# Altium schematic symbol library Library.SchLib: 40 symbols
Pins are listed as number, name and electrical type; pins without a type are passive.

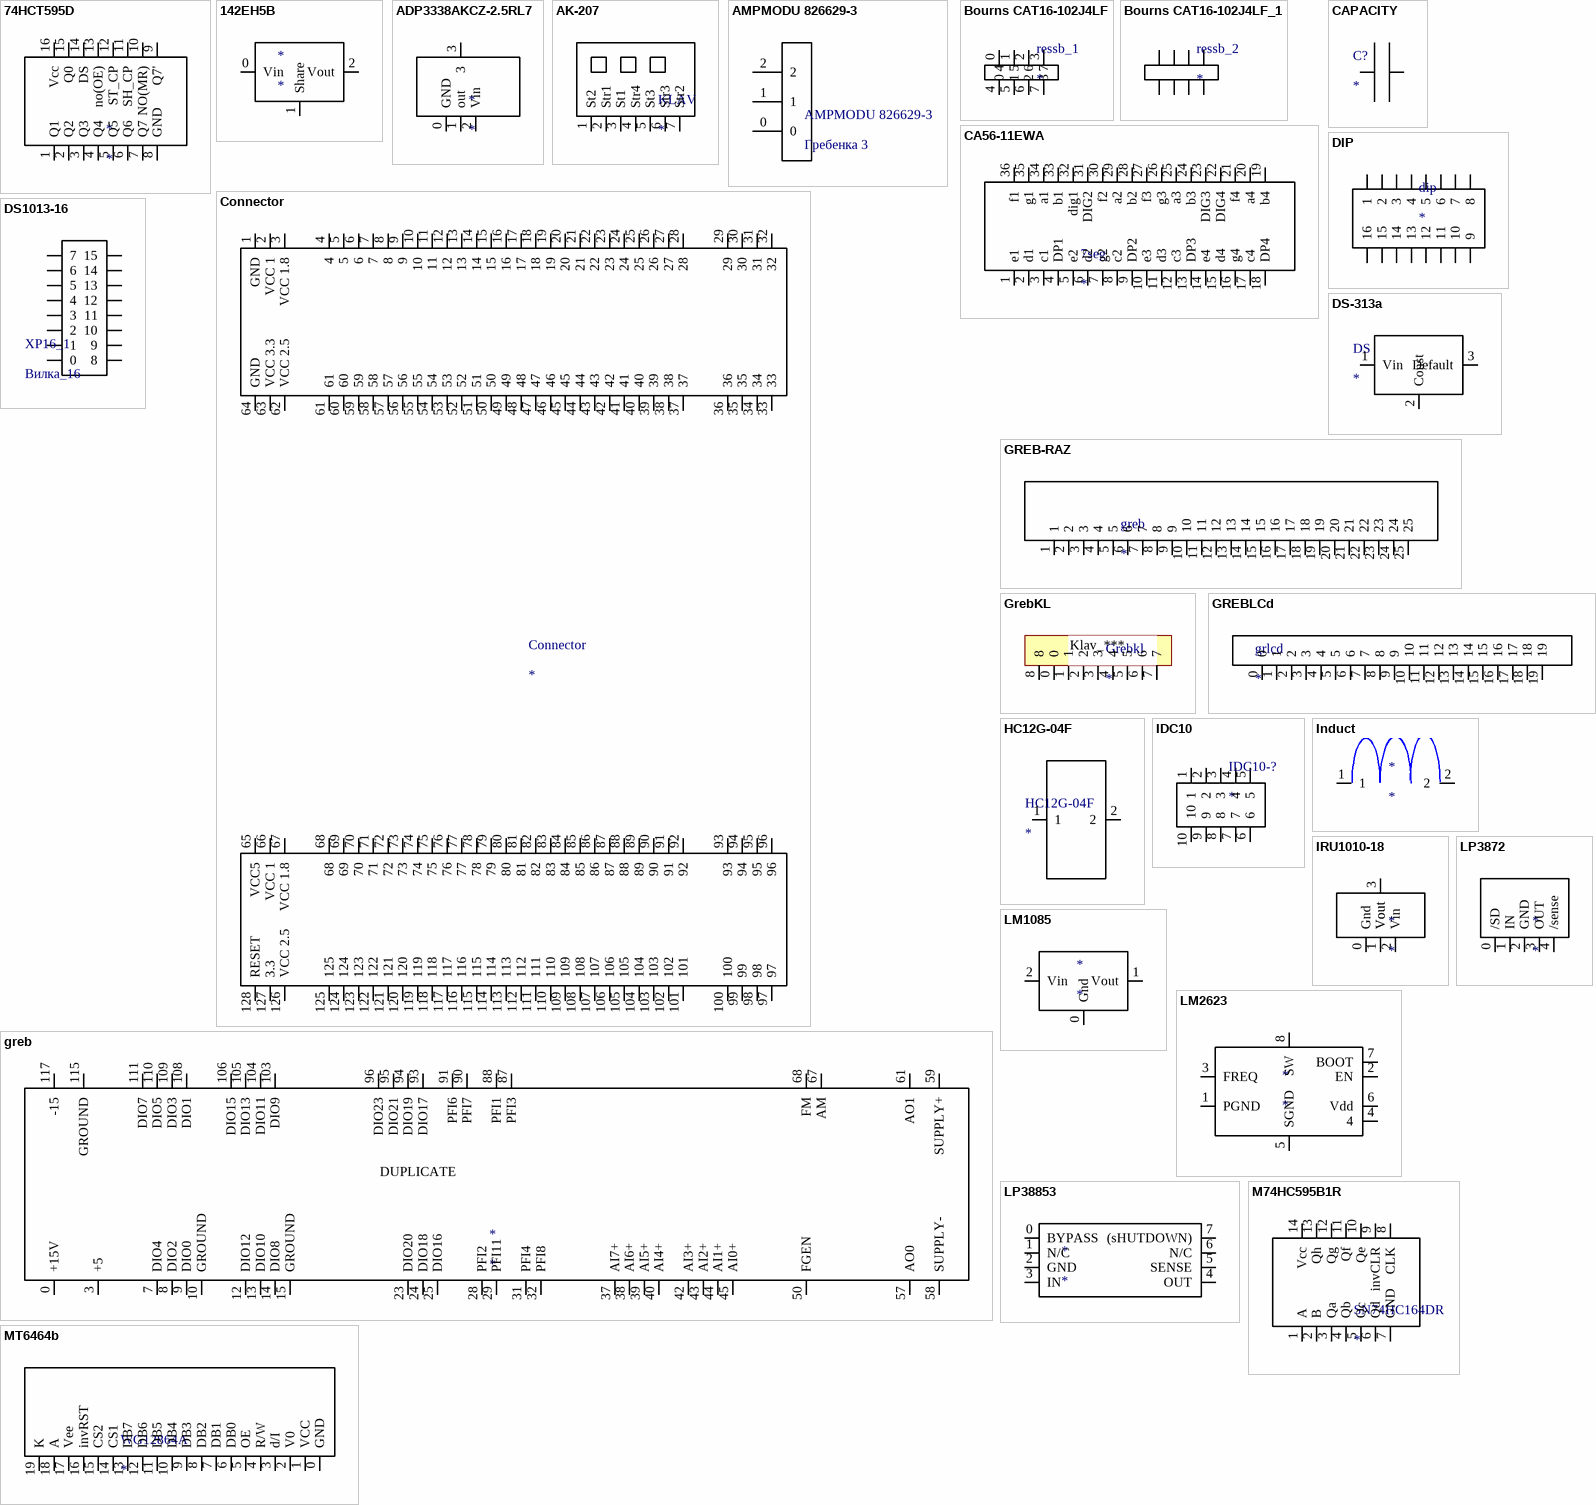
[diagram p0: symbols 74HCT595D to MT6464b]

## 74HCT595D
designator *
footprint SN74HC164DR-D
pins: 1 Q1, 2 Q2, 3 Q3, 4 Q4, 5 Q5, 6 Q6, 7 Q7, 8 GND, 9 Q7', 10 NO(MR), 11 SH_CP, 12 ST_CP, 13 no(OE), 14 DS, 15 Q0, 16 Vcc

## 142ЕН5В
designator *
footprint К(Р)142ЕН5В
pins: 0 Vin, 1 Share, 2 Vout

## ADP3338AKCZ-2.5RL7
designator *
footprint sot223
pins: 0 GND, 1 out, 2 Vin, 3

## AK-207
designator KLAV
footprint AK-207
pins: 1 St2, 2 Str1, 3 St1, 4 Str4, 5 St3, 6 Str3, 7 Str2

## AMPMODU 826629-3
designator AMPMODU 826629-3, comment Гребенка 3
footprint AMPMODU 826629-3 (Гребенка)
pins: 0, 1, 2

## Bourns CAT16-102J4LF
designator ressb_1
footprint CAT16-102J4LF
pins: 0, 1, 2, 3, 4, 5, 6, 7

## Bourns CAT16-102J4LF_1
designator ressb_2
footprint CAT16-102J4LF_2
pins: 0, 1, 2, 3, 4, 5, 6, 7

## CA56-11EWA
designator 7seg
footprint CA56-11EWA
pins: 1 e1, 2 d1, 3 c1, 4 DP1, 5 e2, 6 d2, 7 g2, 8 c2, 9 DP2, 10 e3, 11 d3, 12 c3, 13 DP3, 14 e4, 15 d4, 16 g4, 17 c4, 18 DP4, 19 b4, 20 a4, 21 f4, 22 DIG4, 23 DIG3, 24 b3, 25 a3, 26 g3, 27 f3, 28 b2, 29 a2, 30 f2, 31 DIG2, 32 dig1, 33 b1, 34 a1, 35 g1, 36 f1

## CAPACITY
designator C?
footprint R0805
footprint 1206
pins: 1, 2

## Connector
designator Connector
footprint Connect
pins: 1 GND, 2 VCC 1, 3 VCC 1.8, 4, 5, 6, 7, 8, 9, 10, 11, 12, 13, 14, 15, 16, 17, 18, 19, 20, 21, 22, 23, 24, 25, 26, 27, 28, 29, 30, 31, 32, 33, 34, 35, 36, 37, 38, 39, 40, 41, 42, 43, 44, 45, 46, 47, 48, 49, 50, 51, 52, 53, 54, 55, 56, 57, 58, 59, 60, 61, 62 VCC 2.5, 63 VCC 3.3, 64 GND, 65 VCC5, 66 VCC 1, 67 VCC 1.8, 68, 69, 70, 71, 72, 73, 74, 75, 76, 77, 78, 79, 80, 81, 82, 83, 84, 85, 86, 87, 88, 89, 90, 91, 92, 93, 94, 95, 96, 97, 98, 99, 100, 101, 102, 103, 104, 105, 106, 107, 108, 109, 110, 111, 112, 113, 114, 115, 116, 117, 118, 119, 120, 121, 122, 123, 124, 125, 126 VCC 2.5, 127 3.3, 128 RESET

## DIP
designator dip
footprint SWD1-8
pins: 1, 2, 3, 4, 5, 6, 7, 8, 9, 10, 11, 12, 13, 14, 15, 16

## DS1013-16
designator XP16_1, comment Вилка_16
16_pin
footprint DS1013-16
pins: 0, 1, 2, 3, 4, 5, 6, 7, 8, 9, 10, 11, 12, 13, 14, 15

## DS-313a
designator DS
footprint ds-313
pins: 1 Vin, 2 Const, 3 Default

## greb
designator *
footprint GrebForPCI
pins: 0 +15V, 3 +5, 7 DIO4, 8 DIO2, 9 DIO0, 10 GROUND, 12 DIO12, 13 DIO10, 14 DIO8, 15 GROUND, 23 DIO20, 24 DIO18, 25 DIO16, 28 PFI2, 29 PFI11, 31 PFI4, 32 PFI8, 37 AI7+, 38 AI6+, 39 AI5+, 40 AI4+, 42 AI3+, 43 AI2+, 44 AI1+, 45 AI0+, 50 FGEN, 57 AO0, 58 SUPPLY-, 59 SUPPLY+, 61 AO1, 67 AM, 68 FM, 87 PFI3, 88 PFI1, 90 PFI7, 91 PFI6, 93 DIO17, 94 DIO19, 95 DIO21, 96 DIO23, 103 DIO9, 104 DIO11, 105 DIO13, 106 DIO15, 108 DIO1, 109 DIO3, 110 DIO5, 111 DIO7, 115 GROUND, 117 -15
text: DUPLICATE /

## GREB-RAZ
designator greb
footprint GREBENKA
pins: 1, 2, 3, 4, 5, 6, 7, 8, 9, 10, 11, 12, 13, 14, 15, 16, 17, 18, 19, 20, 21, 22, 23, 24, 25

## GrebKL
designator Grebkl
footprint Greb_KL
pins: 0, 1, 2, 3, 4, 5, 6, 7, 8
text: Klav_***

## GREBLCd
designator grlcd
footprint GREB_LCD
pins: 0, 1, 2, 3, 4, 5, 6, 7, 8, 9, 10, 11, 12, 13, 14, 15, 16, 17, 18, 19

## HC12G-04F
designator HC12G-04F
footprint HC12G-04F
pins: 1, 2

## IDC10
designator IDC10-?
footprint IDC10
pins: 1, 2, 3, 4, 5, 6, 7, 8, 9, 10

## Induct
designator *
footprint B82464G4472M
pins: 1, 2

## IRU1010-18
designator *
footprint IRU1010-18
pins: 0 Gnd, 1 Vout, 2 Vin, 3 Vout

## LM1085
designator *
footprint LM1085
pins: 0 Gnd, 1 Vout, 2 Vin

## LM2623
designator *
footprint VSSOP-8
pins: 1 PGND, 2 EN, 3 FREQ, 4, 5 SGND, 6 Vdd, 7 BOOT, 8 SW

## LP3872
designator *
footprint SC1566I5M2.5TRT
pins: 0 /SD, 1 IN, 2 GND, 3 OUT, 4 /sense

## LP38853
designator *
footprint 8SO PowerPAD
pins: 0 BYPASS, 1 N/C, 2 GND, 3 IN, 4 OUT, 5 SENSE, 6 N/C, 7 (sHUTDOWN)

## M74HC595B1R
designator SN74HC164DR
footprint SN74HC164DRX
pins: 1 A, 2 B, 3 Qa, 4 Qb, 5 Qc, 6 Qd, 7 GND, 8 CLK, 9 invCLR, 10 Qe, 11 Qf, 12 Qg, 13 Qh, 14 Vcc

## MT6464b
designator WG12864A
footprint WG12864A
pins: 0 GND, 1 VCC, 2 V0, 3 d/I, 4 R/W, 5 OE, 6 DB0, 7 DB1, 8 DB2, 9 DB3, 10 DB4, 11 DB5, 12 DB6, 13 DB7, 14 CS1, 15 CS2, 16 invRST, 17 Vee, 18 A, 19 K

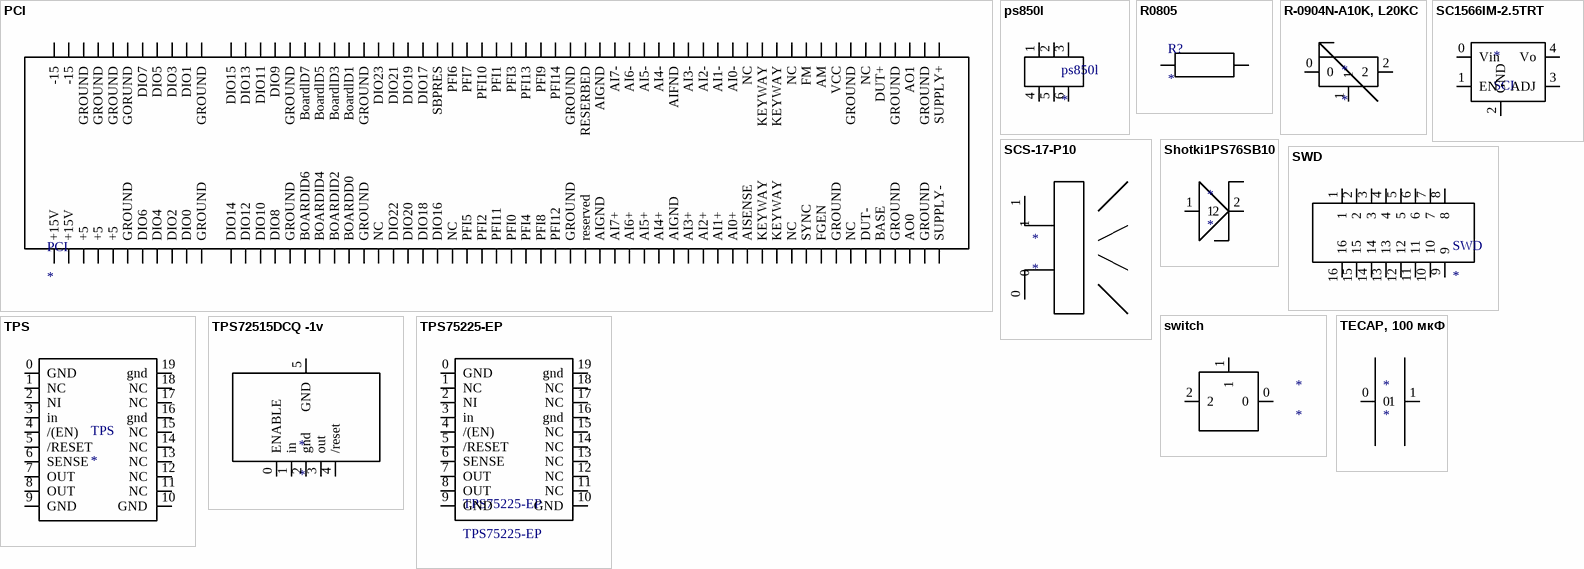
[diagram p1: symbols PCI to TPS75225-EP]

## PCI
designator PCI
footprint PCI-120
pins: 0 +15V, 1 +15V, 2 +5, 3 +5, 4 +5, 5 GROUND, 6 DIO6, 7 DIO4, 8 DIO2, 9 DIO0, 10 GROUND, 11 DIO14, 12 DIO12, 13 DIO10, 14 DIO8, 15 GROUND, 16 BOARDID6, 17 BOARDID4, 18 BOARDID2, 19 BOARDD0, 20 GROUND, 21 NC, 22 DIO22, 23 DIO20, 24 DIO18, 25 DIO16, 26 NC, 27 PFI5, 28 PFI2, 29 PFI11, 30 PFI0, 31 PFI4, 32 PFI8, 33 PFI12, 34 GROUND, 35 reserved, 36 AIGND, 37 AI7+, 38 AI6+, 39 AI5+, 40 AI4+, 41 AIGND, 42 AI3+, 43 AI2+, 44 AI1+, 45 AI0+, 46 AISENSE, 47 KEYWAY, 48 NC, 49 SYNC, 50 FGEN, 51 GROUND, 52 NC, 53 DUT-, 54 BASE, 55 GROUND, 56 AO0, 57 GROUND, 58 SUPPLY-, 59 SUPPLY+, 60 GROUND, 61 AO1, 62 GROUND, 63 DUT+, 64 NC, 65 GROUND, 66 VCC, 67 AM, 68 FM, 69 NC, 70 KEYWAY, 71 NC, 72 AI0-, 73 AI1-, 74 AI2-, 75 AI3-, 76 AIFND, 77 AI4-, 78 AI5-, 79 AI6-, 80 AI7-, 81 AIGND, 82 RESERBED, 83 GROUND, 84 PFI14, 85 PFI9, 86 PFI13, 87 PFI3, 88 PFI1, 89 PFI10, 90 PFI7, 91 PFI6, 92 SBPRES, 93 DIO17, 94 DIO19, 95 DIO21, 96 DIO23, 97 GROUND, 98 BoardlD1, 99 BoardlD3, 100 BoardlD5, 101 BoardlD7, 102 GROUND, 103 DIO9, 104 DIO11, 105 DIO13, 106 DIO15, 107 GROUND, 108 DIO1, 109 DIO3, 110 DIO5, 111 DIO7, 112 GORUND, 113 GROUND, 114 GROUND, 115 GROUND, 116 -15, 117 -15, 118 KEYWAY, 119 KEYWAY

## ps850l
designator ps850l
footprint ps850l
pins: 1, 2, 3, 4, 5, 6

## R0805
designator R?
footprint R0805
pins: 1, 2

## R-0904N-A10K, L20KC
designator *
footprint R-0904N-A10K, L20KC
pins: 0, 1, 2

## SC1566IM-2.5TRT
designator *, comment SCI
footprint SC1566I5M2.5TRT
pins: 0 Vin, 1 EN, 2 GND, 3 ADJ, 4 Vo

## SCS-17-P10
designator *
footprint SCS-17-P10
pins: 0, 1

## Shotki1PS76SB10
designator *
footprint 1PS76SB10
pins: 1, 2

## SWD
designator SWD
footprint SWD1-8
pins: 1, 2, 3, 4, 5, 6, 7, 8, 9, 10, 11, 12, 13, 14, 15, 16

## switch
designator *
footprint К(Р)142ЕН5В
pins: 0, 1, 2

## TECAP, 100 мкФ
designator *
footprint tantal cap
pins: 0, 1

## TPS
designator TPS
footprint 20HTSSOP
pins: 0 GND, 1 NC, 2 NI, 3 in, 4 /(EN), 5 /RESET, 6 SENSE, 7 OUT, 8 OUT, 9 GND, 10 GND, 11 NC, 12 NC, 13 NC, 14 NC, 15 NC, 16 gnd, 17 NC, 18 NC, 19 gnd

## TPS72515DCQ -1v
designator *
footprint SOT223-5
pins: 0 ENABLE, 1 in, 2 gnd, 3 out, 4 /reset, 5 GND

## TPS75225-EP
designator TPS75225-EP
footprint 20HTSSOP
pins: 0 GND, 1 NC, 2 NI, 3 in, 4 /(EN), 5 /RESET, 6 SENSE, 7 OUT, 8 OUT, 9 GND, 10 GND, 11 NC, 12 NC, 13 NC, 14 NC, 15 NC, 16 gnd, 17 NC, 18 NC, 19 gnd